# Altium schematic symbol library 91814-3110.SchLib: 1 symbol
Pins are listed as number, name and electrical type; pins without a type are passive.

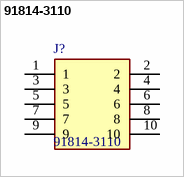
[diagram p0: symbol 91814-3110]

## 91814-3110
designator J?
2.54mm Pitch C-Grid III Dual Row Right-Angle Shrouded Header, 10 Circuits, Tin (Sn) over Nickel (Ni); Manufacturer_Name: Molex; Geometry.Height: 9.75mm; Manufacturer_Part_Number: 91814-3110; Mouser Part Number: 538-91814-3110; Mouser Price/Stock: https://www.mouser.co.uk/ProductDetail/Molex/91814-3110?qs=foBNLhhmJWj4K%2F9NKQ%252B3vQ%3D%3D; Arrow Part Number: *; Arrow Price/Stock: *; Datasheet Link: https://www.molex.com/pdm_docs/sd/918143110_sd.pdf
footprint 918143110
pins: 1, 2, 3, 4, 5, 6, 7, 8, 9, 10